# EAGLE library part 2X5 (library stiftleisten)
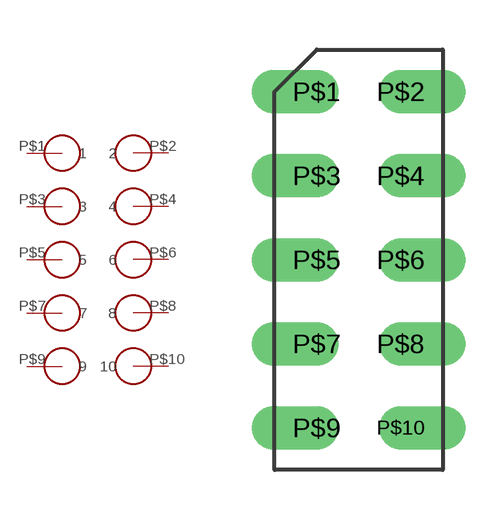
[diagram p0: symbol with the pads of 2X5; footprint 2X5]

Designator prefix -

## 2X5  [2X5]
P$1  1
P$2  2
P$3  3
P$4  4
P$5  5
P$6  6
P$7  7
P$8  8
P$9  9
P$10  10

## Footprint 2X5 (pad centres in mm)
drill 0.8 offset: P$1 -1.27,5.08; P$2 1.27,5.08; P$3 -1.27,2.54; P$4 1.27,2.54; P$5 -1.27,0; P$6 1.27,0; P$7 -1.27,-2.54; P$8 1.27,-2.54; P$9 -1.27,-5.08; P$10 1.27,-5.08